# Altium footprint library diy-modules.PCBLIB: 111 footprints (part 3 of 7)
Each footprint in its own frame and in the unit in brackets; x right, y up, seen from the top. Pads: shape width x height; smd on the part's side, far side on the other; paste and mask are expansions set on the pad; w line width, h text height; cw(c..) or ccw(c..) is an arc to the next point about the centre after c.
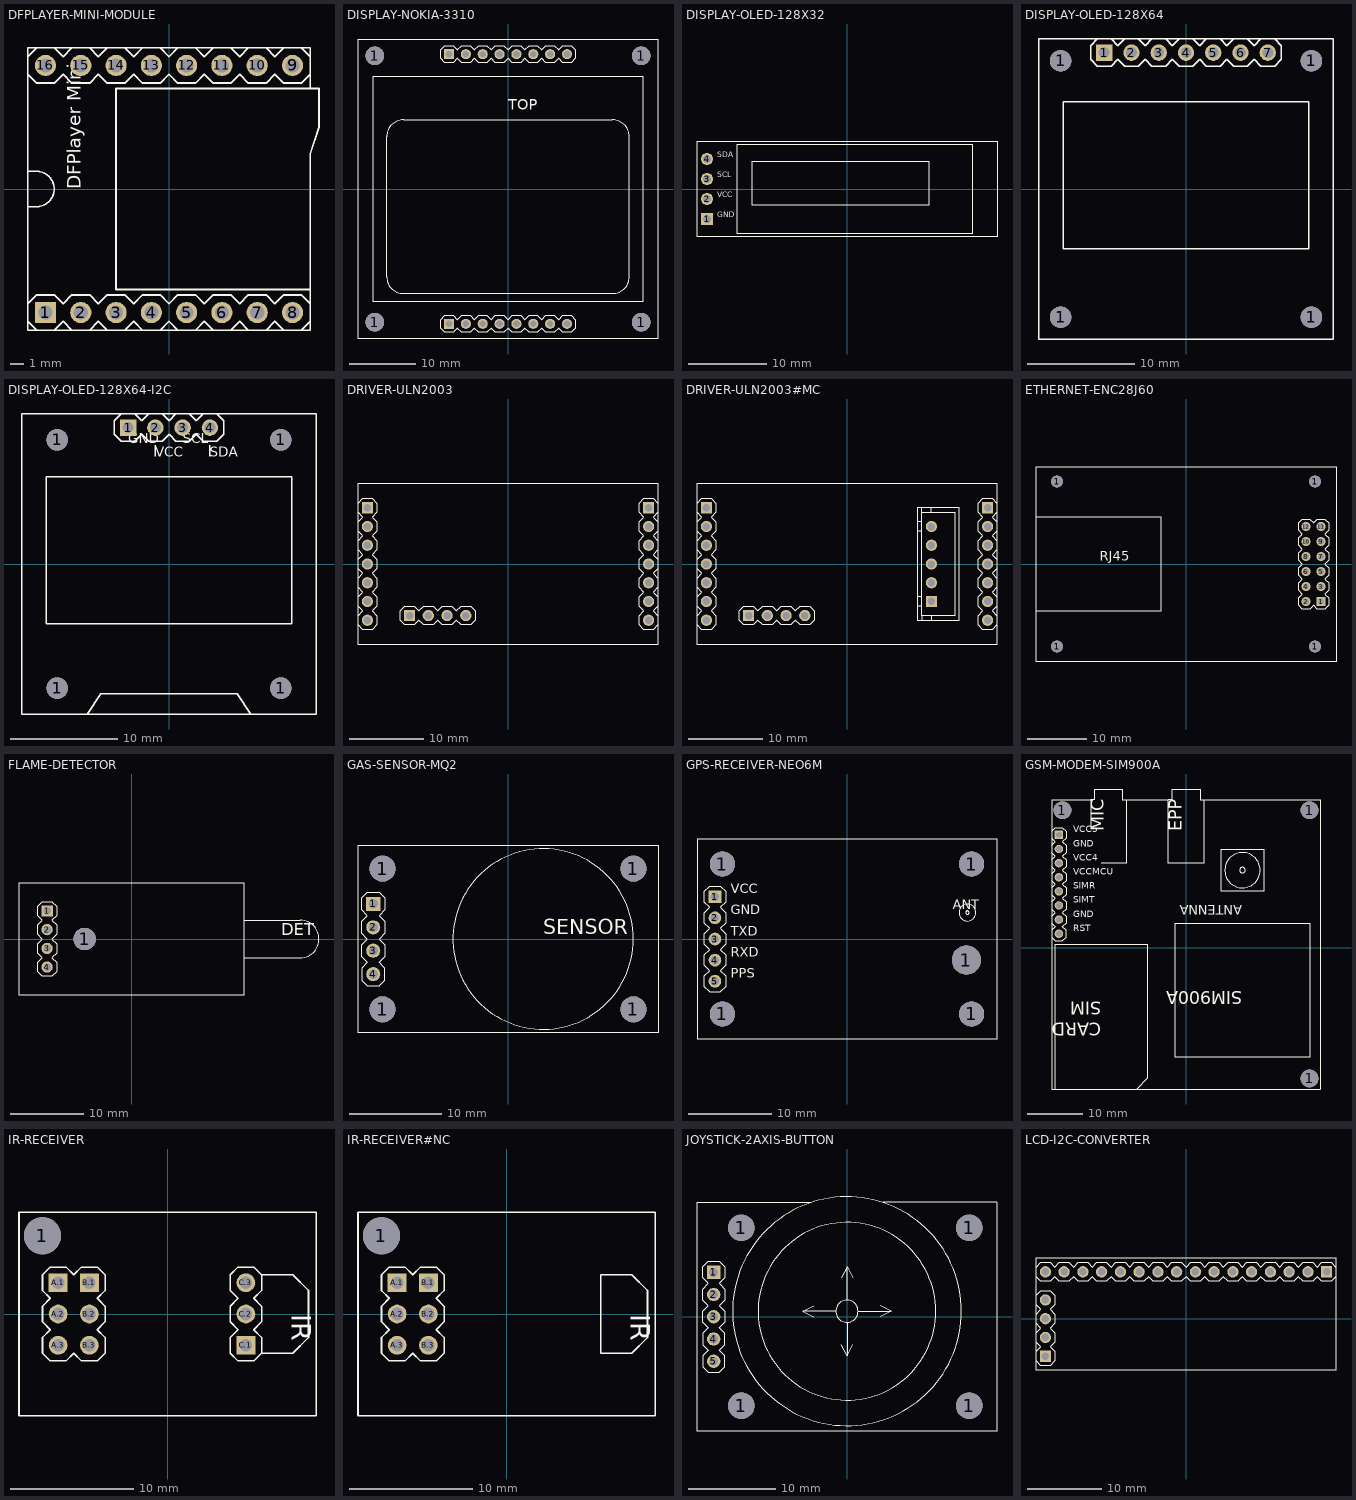
[diagram p2: the footprints below, top view; thin cyan lines are the x and y axes]

## DFPLAYER-MINI-MODULE [mil]
pads (16):
  rect 60x60 hole 40: 1(-350,-350)
  round 60 hole 40: 2(-250,-350) 3(-150,-350) 4(-50,-350) 5(50,-350) 6(150,-350) 7(250,-350) 8(350,-350) 9(350,350) 10(250,350) 11(150,350) 12(50,350) 13(-50,350) 14(-150,350) 15(-250,350) 16(-350,350)
Top Overlay:
  lines w5: -400,325 -375,300 -325,300 -300,325 -275,300 -225,300 -200,325 -175,300 -125,300 -100,325 -75,300 -25,300 0,325 25,300 75,300 100,325 125,300 175,300 200,325 225,300 275,300 300,325 325,300 375,300 400,325 ; -400,375 -375,400 ; -325,-400 -300,-375 -275,-400 ; -325,400 -300,375 -275,400 ; -225,-400 -200,-375 -175,-400 ; -225,400 -200,375 -175,400 ; -125,400 -100,375 -75,400 ; -75,-400 -100,-375 -125,-400 ; -25,400 0,375 25,400 ; 25,-400 0,-375 -25,-400 ; 75,-400 100,-375 125,-400 ; 75,400 100,375 125,400 ; 175,-400 200,-375 225,-400 ; 175,400 200,375 225,400 ; 275,-400 300,-375 325,-400 ; 275,400 300,375 325,400 ; 375,-400 400,-375 ; 375,400 400,375 ; 400,-325 375,-300 325,-300 300,-325 275,-300 225,-300 200,-325 175,-300 125,-300 100,-325 75,-300 25,-300 0,-325 -25,-300 -75,-300 -100,-325 -125,-300 -175,-300 -200,-325 -225,-300 -275,-300 -300,-325 -325,-300 -375,-300 -400,-325 ; -400,-375 -400,-325 ; -400,-375 -400,-400 -375,-400 ; -400,-375 -375,-400 ; -400,-325 -400,-50 ; -400,-50 -400,50 ; -400,-50 -375,-50 ccw(c-375,0) -375,50 -400,50 ; -400,50 -400,400 400,400 400,285 ; -375,-400 -125,-400 ; -125,-400 -25,-400 ; -25,-400 400,-400 400,-285 ; 400,-285 -150,-285 -150,285 400,285 ; 400,-285 400,100 425,175 425,285 400,285
  text "DFPlayer Mini" at -250,0 h38.25

## DISPLAY-NOKIA-3310 [mil]
pads (20):
  round 111 hole 111: 1(-790,-790) 1(-790,790) 1(790,-790) 1(790,790)
  rect 60x60 hole 40: J1.1(-350,-800) J2.1(-350,800)
  round 60 hole 40: J1.2(-250,-800) J1.3(-150,-800) J1.4(-50,-800) J1.5(50,-800) J1.6(150,-800) J1.7(250,-800) J1.8(350,-800) J2.2(-250,800) J2.3(-150,800) J2.4(-50,800) J2.5(50,800) J2.6(150,800) J2.7(250,800) J2.8(350,800)
Top Overlay:
  lines w5: -890,-890 890,-890 890,890 -890,890 -890,-890 ; -800,-670 800,-670 800,670 -800,670 -800,-670 ; -720,-520 ccw(c-620,-520) -620,-620 620,-620 ccw(c620,-520) 720,-520 720,310 ccw(c620,310) 620,410 -620,410 ccw(c-620,310) -720,310 -720,-520 ; -400,-825 -375,-850 -325,-850 -300,-825 -275,-850 -225,-850 -200,-825 -175,-850 -125,-850 -100,-825 -75,-850 -25,-850 0,-825 25,-850 75,-850 100,-825 125,-850 175,-850 200,-825 225,-850 275,-850 300,-825 325,-850 375,-850 400,-825 400,-775 375,-750 325,-750 300,-775 275,-750 225,-750 200,-775 175,-750 125,-750 100,-775 75,-750 25,-750 0,-775 -25,-750 -75,-750 -100,-775 -125,-750 -175,-750 -200,-775 -225,-750 -275,-750 -300,-775 -325,-750 -375,-750 -400,-775 -400,-825 ; -400,775 -375,750 -325,750 -300,775 -275,750 -225,750 -200,775 -175,750 -125,750 -100,775 -75,750 -25,750 0,775 25,750 75,750 100,775 125,750 175,750 200,775 225,750 275,750 300,775 325,750 375,750 400,775 400,825 375,850 325,850 300,825 275,850 225,850 200,825 175,850 125,850 100,825 75,850 25,850 0,825 -25,850 -75,850 -100,825 -125,850 -175,850 -200,825 -225,850 -275,850 -300,825 -325,850 -375,850 -400,825 -400,775
  text "TOP" at 0,450 h108.5

## DISPLAY-OLED-128X32 [mil]
pads (4):
  rect 60x60 hole 40: 1(-700,-150)
  round 60 hole 40: 2(-700,-50) 3(-700,50) 4(-700,150)
Top Overlay:
  lines w5: -750,-240 750,-240 750,240 -750,240 -750,-240 ; -550,-225 625,-225 625,225 -550,225 -550,-225 ; -475,-80 410,-80 410,140 -475,140 -475,-80
  text "GND" at -650,-150 h46.5
  text "VCC" at -650,-50 h46.5
  text "SCL" at -650,50 h46.5
  text "SDA" at -650,150 h46.5

## DISPLAY-OLED-128X64 [mil]
pads (11):
  round 79 hole 79: 1(-460,-470) 1(-460,470) 1(460,-470) 1(460,470)
  rect 60x60 hole 40: 1(-300,500)
  round 60 hole 40: 2(-200,500) 3(-100,500) 4(0,500) 5(100,500) 6(200,500) 7(300,500)
Top Overlay:
  lines w5: -325,550 -350,525 -350,475 -325,450 -275,450 -250,475 -225,450 -175,450 -150,475 -125,450 -75,450 -50,475 -25,450 25,450 50,475 75,450 125,450 150,475 175,450 225,450 250,475 275,450 325,450 350,475 350,525 325,550 ; -275,550 -250,525 -225,550 ; -175,550 -150,525 -125,550 ; -75,550 -50,525 -25,550 ; 25,550 50,525 75,550 ; 125,550 150,525 175,550 ; 225,550 250,525 275,550 ; -540,-550 540,-550 540,550 -540,550 -540,-550 ; -450,-220 450,-220 450,320 -450,320 -450,-220

## DISPLAY-OLED-128X64-I2C [mil]
pads (8):
  round 79 hole 79: 1(-410,-455) 1(-410,455) 1(410,-455) 1(410,455)
  rect 60x60 hole 40: 1(-150,500)
  round 60 hole 40: 2(-50,500) 3(50,500) 4(150,500)
Top Overlay:
  lines w5: -175,550 -200,525 -200,475 -175,450 -125,450 -100,475 -75,450 -25,450 0,475 25,450 75,450 100,475 125,450 175,450 200,475 200,525 175,550 ; -125,550 -100,525 -75,550 ; -50,395 -50,435 ; -25,550 0,525 25,550 ; 75,550 100,525 125,550 ; 150,395 150,435 ; -300,-550 300,-550 ; -300,-550 -540,-550 -540,550 540,550 540,-550 300,-550 ; -300,-550 -250,-475 250,-475 300,-550 ; -450,-220 450,-220 450,320 -450,320 -450,-220
  text "GND" at -150,430 h62
  text "VCC" at -50,380 h62
  text "SCL" at 50,430 h62
  text "SDA" at 150,380 h62

## DRIVER-ULN2003 [mil]
pads (18):
  rect 60x60 hole 40: J1.1(-750,300) J2.1(750,300) J3.1(-525,-275)
  round 60 hole 40: J1.2(-750,200) J1.3(-750,100) J1.4(-750,0) J1.5(-750,-100) J1.6(-750,-200) J1.7(-750,-300) J2.2(750,200) J2.3(750,100) J2.4(750,0) J2.5(750,-100) J2.6(750,-200) J2.7(750,-300) J3.2(-425,-275) J3.3(-325,-275) J3.4(-225,-275)
Top Overlay:
  lines w5: -800,-325 -800,-430 800,-430 800,-325 ; -800,-325 -800,-275 ; -800,-325 -775,-350 -725,-350 -700,-325 -700,-275 -725,-250 -700,-225 -700,-175 -725,-150 -700,-125 -700,-75 -725,-50 -700,-25 -700,25 -725,50 -700,75 -700,125 -725,150 -700,175 -700,225 -725,250 -700,275 -700,325 -725,350 -775,350 -800,325 ; -800,-275 -800,-225 ; -800,-275 -775,-250 -800,-225 ; -800,-225 -800,-175 ; -800,-175 -800,-125 ; -800,-175 -775,-150 -800,-125 ; -800,-125 -800,-75 ; -800,-75 -800,-25 ; -800,-75 -775,-50 -800,-25 ; -800,-25 -800,25 ; -800,25 -800,75 ; -800,25 -775,50 -800,75 ; -800,75 -800,125 ; -800,125 -800,175 ; -800,125 -775,150 -800,175 ; -800,175 -800,225 ; -800,225 -800,275 ; -800,225 -775,250 -800,275 ; -800,275 -800,325 ; -800,325 -800,430 800,430 800,325 ; 800,-325 800,-275 ; 800,-325 775,-350 725,-350 700,-325 700,-275 725,-250 700,-225 700,-175 725,-150 700,-125 700,-75 725,-50 700,-25 700,25 725,50 700,75 700,125 725,150 700,175 700,225 725,250 700,275 700,325 725,350 775,350 800,325 ; 800,-275 800,-225 ; 800,-275 775,-250 800,-225 ; 800,-225 800,-175 ; 800,-175 800,-125 ; 800,-175 775,-150 800,-125 ; 800,-125 800,-75 ; 800,-75 800,-25 ; 800,-75 775,-50 800,-25 ; 800,-25 800,25 ; 800,25 800,75 ; 800,25 775,50 800,75 ; 800,75 800,125 ; 800,125 800,175 ; 800,125 775,150 800,175 ; 800,175 800,225 ; 800,225 800,275 ; 800,225 775,250 800,275 ; 800,275 800,325 ; -575,-300 -550,-325 -500,-325 -475,-300 -450,-325 -400,-325 -375,-300 -350,-325 -300,-325 -275,-300 -250,-325 -200,-325 -175,-300 -175,-250 -200,-225 -250,-225 -275,-250 -300,-225 -350,-225 -375,-250 -400,-225 -450,-225 -475,-250 -500,-225 -550,-225 -575,-250 -575,-300

## DRIVER-ULN2003#MC [mil]
pads (23):
  rect 60x60 hole 40: J1.1(-750,300) J2.1(750,300) J3.1(-525,-275) P3.1(450,-200)
  round 60 hole 40: J1.2(-750,200) J1.3(-750,100) J1.4(-750,0) J1.5(-750,-100) J1.6(-750,-200) J1.7(-750,-300) J2.2(750,200) J2.3(750,100) J2.4(750,0) J2.5(750,-100) J2.6(750,-200) J2.7(750,-300) J3.2(-425,-275) J3.3(-325,-275) J3.4(-225,-275) P3.2(450,-100) P3.3(450,0) P3.4(450,100) P3.5(450,200)
Top Overlay:
  drawing of 162 lines, arcs and shapes, not listed

## ETHERNET-ENC28J60 [mil]
pads (16):
  round 79 hole 79: 1(-860,-550) 1(-860,550) 1(860,-550) 1(860,550)
  rect 60x60 hole 40: 1(900,-250)
  round 60 hole 40: 2(800,-250) 3(900,-150) 4(800,-150) 5(900,-50) 6(800,-50) 7(900,50) 8(800,50) 9(900,150) 10(800,150) 11(900,250) 12(800,250)
Top Overlay:
  lines w5: -1000,-315 -1000,-650 1000,-650 1000,650 -1000,650 -1000,315 ; -1000,-315 -1000,315 ; -1000,-315 -170,-315 -170,315 -1000,315 ; 750,-275 775,-300 825,-300 850,-275 875,-300 925,-300 950,-275 950,-225 925,-200 950,-175 950,-125 925,-100 950,-75 950,-25 925,0 950,25 950,75 925,100 950,125 950,175 925,200 950,225 950,275 925,300 875,300 850,275 825,300 775,300 750,275 750,225 775,200 750,175 750,125 775,100 750,75 750,25 775,0 750,-25 750,-75 775,-100 750,-125 750,-175 775,-200 750,-225 750,-275
  text "RJ45" at -575,0 h108.5

## FLAME-DETECTOR [mil]
pads (5):
  rect 60x60 hole 40: 1(-450,150)
  round 119 hole 119: 1(-250,0)
  round 60 hole 40: 2(-450,50) 3(-450,-50) 4(-450,-150)
Top Overlay:
  lines w5: 600,-100 600,100 ; 600,-100 600,-300 -600,-300 -600,300 600,300 600,100 ; 600,-100 900,-100 ccw(c900,0) 900,100 600,100 ; -500,-175 -475,-200 -425,-200 -400,-175 -400,-125 -425,-100 -400,-75 -400,-25 -425,0 -400,25 -400,75 -425,100 -400,125 -400,175 -425,200 -475,200 -500,175 -500,125 -475,100 -500,75 -500,25 -475,0 -500,-25 -500,-75 -475,-100 -500,-125 -500,-175
  text "DET" at 800,0 h108.5

## GAS-SENSOR-MQ2 [mil]
pads (8):
  rect 60x60 hole 40: 1(-575,150)
  round 111 hole 111: 1(-535,-300) 1(-535,300) 1(535,-300) 1(535,300)
  round 60 hole 40: 2(-575,50) 3(-575,-50) 4(-575,-150)
Top Overlay:
  circle w5: c150,0 r385
  lines w5: -640,-400 640,-400 640,400 -640,400 -640,-400 ; -625,-175 -625,-125 -600,-100 -625,-75 -625,-25 -600,0 -625,25 -625,75 -600,100 -625,125 -625,175 -600,200 -550,200 -525,175 -525,125 -550,100 -525,75 -525,25 -550,0 -525,-25 -525,-75 -550,-100 -525,-125 -525,-175 -550,-200 -600,-200 -625,-175
  text "SENSOR" at 150,0 h108.5

## GPS-RECEIVER-NEO6M [mil]
pads (10):
  rect 60x60 hole 40: 1(-625,200)
  round 119 hole 119: 1(-590,-355) 1(-590,355) 1(590,-355) 1(590,355)
  round 138 hole 138: 1(565,-100)
  round 60 hole 40: 2(-625,100) 3(-625,0) 4(-625,-100) 5(-625,-200)
Top Overlay:
  circle w5: c570,125 r40
  circle w5: c570,125 r8
  lines w5: -710,-475 710,-475 710,475 -710,475 -710,-475 ; -675,-225 -675,-175 -650,-150 -675,-125 -675,-75 -650,-50 -675,-25 -675,25 -650,50 -675,75 -675,125 -650,150 -675,175 -675,225 -650,250 -600,250 -575,225 -575,175 -600,150 -575,125 -575,75 -600,50 -575,25 -575,-25 -600,-50 -575,-75 -575,-125 -600,-150 -575,-175 -575,-225 -600,-250 -650,-250 -675,-225
  text "VCC" at -550,200 h77.5
  text "GND" at -550,100 h77.5
  text "TXD" at -550,0 h77.5
  text "RXD" at -550,-100 h77.5
  text "PPS" at -550,-200 h77.5
  text "ANT" at 500,125 h77.5

## GSM-MODEM-SIM900A [mil]
pads (11):
  round 126 hole 126: 1(-875,975) 1(875,-925) 1(875,975)
  rect 60x60 hole 40: J1.1(-900,800)
  round 60 hole 40: J1.2(-900,700) J1.3(-900,600) J1.4(-900,500) J1.5(-900,400) J1.6(-900,300) J1.7(-900,200) J1.8(-900,100)
Top Overlay:
  circle w5: c400,550 r125
  circle w5: c400,550 r20
  lines w5: -950,75 -925,50 -875,50 -850,75 -850,125 -875,150 -850,175 -850,225 -875,250 -850,275 -850,325 -875,350 -850,375 -850,425 -875,450 -850,475 -850,525 -875,550 -850,575 -850,625 -875,650 -850,675 -850,725 -875,750 -850,775 -850,825 -875,850 -925,850 -950,825 ; -950,125 -925,150 -950,175 ; -950,225 -925,250 -950,275 ; -950,325 -925,350 -950,375 ; -950,425 -925,450 -950,475 ; -950,525 -925,550 -950,575 ; -950,625 -925,650 -950,675 ; -950,725 -925,750 -950,775 ; -675,850 -675,1050 ; -600,600 -425,600 -425,1050 ; -925,-1000 -950,-1000 -950,1050 -675,1050 ; -925,-1000 -350,-1000 ; -925,-1000 -925,25 -275,25 -275,-925 -350,-1000 ; -675,1050 -650,1050 -650,1125 -450,1125 -450,1050 -425,1050 ; -425,1050 -125,1050 ; -350,-1000 950,-1000 950,1050 125,1050 ; -125,1050 -125,600 125,600 125,1050 ; -125,1050 -100,1050 -100,1125 100,1125 100,1050 125,1050 ; -75,-775 875,-775 875,175 -75,175 -75,-775 ; 250,400 550,400 550,700 250,700 250,400
  text "MIC" at -550,825 h155
  text "EPP" at 0,825 h155
  text "SIM" at -600,-350 h155
  text "CARD" at -600,-500 h155
  text "ANTENNA" at 400,325 h116.25
  text "SIM900A" at 400,-275 h155
  text "VCC5" at -800,800 h77.5
  text "GND" at -800,700 h77.5
  text "VCC4" at -800,600 h77.5
  text "VCCMCU" at -800,500 h77.5
  text "SIMR" at -800,400 h77.5
  text "SIMT" at -800,300 h77.5
  text "GND" at -800,200 h77.5
  text "RST" at -800,100 h77.5

## IR-RECEIVER [mil]
pads (10):
  round 119 hole 119: 1(-400,250)
  rect 60x60 hole 40: A.1(-350,100) B.1(-250,100) C.1(250,-100)
  round 60 hole 40: A.2(-350,0) A.3(-350,-100) B.2(-250,0) B.3(-250,-100) C.2(250,0) C.3(250,100)
Top Overlay:
  lines w5: 300,-125 300,-75 275,-50 300,-25 300,25 275,50 300,75 300,125 ; 300,-125 275,-150 225,-150 200,-125 200,-75 225,-50 200,-25 200,25 225,50 200,75 200,125 225,150 275,150 300,125 ; 300,-125 400,-125 450,-75 450,75 400,125 300,125 ; -475,-325 475,-325 475,325 -475,325 -475,-325 ; -400,-125 -375,-150 -325,-150 -300,-125 -275,-150 -225,-150 -200,-125 -200,-75 -225,-50 -200,-25 -200,25 -225,50 -200,75 -200,125 -225,150 -275,150 -300,125 -325,150 -375,150 -400,125 -400,75 -375,50 -400,25 -400,-25 -375,-50 -400,-75 -400,-125
  text "IR" at 375,0 h108.5

## IR-RECEIVER#NC [mil]
pads (7):
  round 119 hole 119: 1(-400,250)
  rect 60x60 hole 40: A.1(-350,100) B.1(-250,100)
  round 60 hole 40: A.2(-350,0) A.3(-350,-100) B.2(-250,0) B.3(-250,-100)
Top Overlay:
  lines w5: -475,-325 475,-325 475,325 -475,325 -475,-325 ; -400,-125 -375,-150 -325,-150 -300,-125 -275,-150 -225,-150 -200,-125 -200,-75 -225,-50 -200,-25 -200,25 -225,50 -200,75 -200,125 -225,150 -275,150 -300,125 -325,150 -375,150 -400,125 -400,75 -375,50 -400,25 -400,-25 -375,-50 -400,-75 -400,-125 ; 300,-125 400,-125 450,-75 450,75 400,125 300,125 300,-125
  text "IR" at 375,0 h108.5

## JOYSTICK-2AXIS-BUTTON [mil]
pads (9):
  rect 60x60 hole 40: 1(-600,200)
  round 119 hole 119: 1(-475,-400) 1(-475,400) 1(550,-400) 1(550,400)
  round 60 hole 40: 2(-600,100) 3(-600,0) 4(-600,-100) 5(-600,-200)
Top Overlay:
  circle w5: c0,25 r515
  circle w5: c0,25 r400
  circle w5: c0,25 r50
  lines w5: -160,515 -675,515 -675,-515 675,-515 675,515 160,515 ; -150,0 -200,25 ; -150,50 -200,25 ; -50,25 -200,25 ; -25,-125 0,-175 ; -25,175 0,225 ; 0,-25 0,-175 ; 0,75 0,225 ; 25,-125 0,-175 ; 25,175 0,225 ; 50,25 200,25 ; 150,0 200,25 ; 150,50 200,25 ; -650,-225 -650,-175 -625,-150 -650,-125 -650,-75 -625,-50 -650,-25 -650,25 -625,50 -650,75 -650,125 -625,150 -650,175 -650,225 -625,250 -575,250 -550,225 -550,175 -575,150 -550,125 -550,75 -575,50 -550,25 -550,-25 -575,-50 -550,-75 -550,-125 -575,-150 -550,-175 -550,-225 -575,-250 -625,-250 -650,-225

## LCD-I2C-CONVERTER [mil]
pads (20):
  rect 60x60 hole 40: J1.1(-750,-200) J2.1(750,250)
  round 60 hole 40: J1.2(-750,-100) J1.3(-750,0) J1.4(-750,100) J2.2(650,250) J2.3(550,250) J2.4(450,250) J2.5(350,250) J2.6(250,250) J2.7(150,250) J2.8(50,250) J2.9(-50,250) J2.10(-150,250) J2.11(-250,250) J2.12(-350,250) J2.13(-450,250) J2.14(-550,250) J2.15(-650,250) J2.16(-750,250)
Top Overlay:
  lines w5: -800,-225 -800,-275 800,-275 800,225 ; -800,-225 -800,-175 ; -800,-225 -775,-250 -725,-250 -700,-225 -700,-175 -725,-150 -700,-125 -700,-75 -725,-50 -700,-25 -700,25 -725,50 -700,75 -700,125 -725,150 -775,150 -800,125 ; -800,-175 -800,-125 ; -800,-175 -775,-150 -800,-125 ; -800,-125 -800,-75 ; -800,-75 -800,-25 ; -800,-75 -775,-50 -800,-25 ; -800,-25 -800,25 ; -800,25 -800,75 ; -800,25 -775,50 -800,75 ; -800,75 -800,125 ; -800,125 -800,225 ; -800,225 -800,275 ; -800,225 -775,200 -725,200 -700,225 -675,200 -625,200 -600,225 -575,200 -525,200 -500,225 -475,200 -425,200 -400,225 -375,200 -325,200 -300,225 -275,200 -225,200 -200,225 -175,200 -125,200 -100,225 -75,200 -25,200 0,225 25,200 75,200 100,225 125,200 175,200 200,225 225,200 275,200 300,225 325,200 375,200 400,225 425,200 475,200 500,225 525,200 575,200 600,225 625,200 675,200 700,225 725,200 775,200 800,225 ; -800,275 -800,325 800,325 800,275 ; -800,275 -775,300 -725,300 -700,275 -675,300 -625,300 -600,275 -575,300 -525,300 -500,275 -475,300 -425,300 -400,275 -375,300 -325,300 -300,275 -275,300 -225,300 -200,275 -175,300 -125,300 -100,275 -75,300 -25,300 0,275 25,300 75,300 100,275 125,300 175,300 200,275 225,300 275,300 300,275 325,300 375,300 400,275 425,300 475,300 500,275 525,300 575,300 600,275 625,300 675,300 700,275 725,300 775,300 800,275 ; 800,225 800,275